# EAGLE library part SMDTOP-8 (library con-amp)
AMP connector
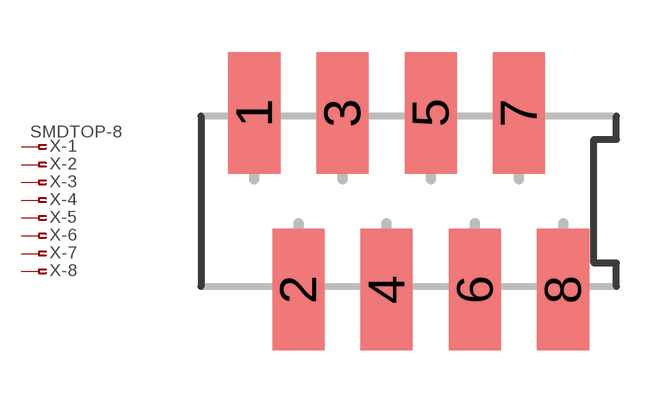
[diagram p105: symbol with the pads of SMDTOP8; footprint SMDTOP8]

Designator prefix X; gates -1=PIN-FV -2=PIN-F -3=PIN-F -4=PIN-F -5=PIN-F -6=PIN-F -7=PIN-F -8=PIN-F

## SMDTOP-8 (OC_FARNELL: unknown; OC_NEWARK: unknown)  [SMDTOP8]
1  -1:1  pas
2  -2:1  pas
3  -3:1  pas
4  -4:1  pas
5  -5:1  pas
6  -6:1  pas
7  -7:1  pas
8  -8:1  pas

## Footprint SMDTOP8 (pad centres in mm)
AMP connector
smd 1.5 x 3.5: 1 -4.445,2.54; 2 -3.175,-2.54; 3 -1.905,2.54; 4 -0.635,-2.54; 5 0.635,2.54; 6 1.905,-2.54; 7 3.175,2.54; 8 4.445,-2.54